# Altium schematic symbol library LM4041.SchLib: 1 symbol
Pins are listed as number, name and electrical type; pins without a type are passive.

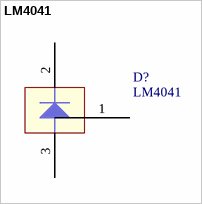
[diagram p0: symbol LM4041]

## LM4041
designator D?
IC, Reference
pins: 1 FB, 2 +, 3 -